# Altium footprint library Relay_Pcb.PcbLib: 4 footprints
Each footprint in its own frame and in the unit in brackets; x right, y up, seen from the top. Pads: shape width x height; smd on the part's side, far side on the other; paste and mask are expansions set on the pad; w line width, h text height; cw(c..) or ccw(c..) is an arc to the next point about the centre after c.
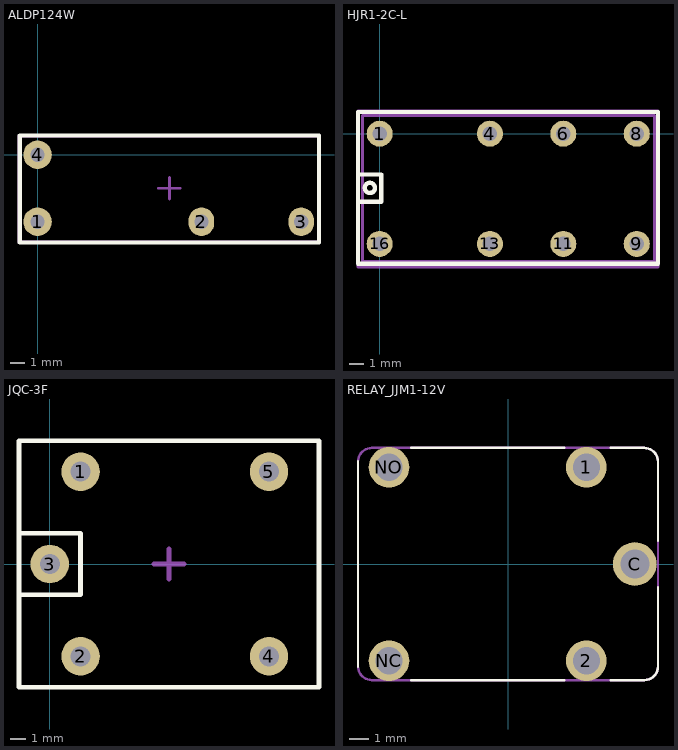
[diagram p0: the footprints below, top view; thin cyan lines are the x and y axes]

## ALDP124W [mm]
pads (4):
  round 2 hole 1: 1(0,-4.7) 4(0,0)
  oval 1.8x2 hole 1: 2(11.5,-4.7) 3(18.5,-4.7)
Top Overlay:
  lines w0.2: -1.25,-6.15 -1.25,1.35 ; -1.25,-6.15 19.75,-6.15 ; -1.25,-6.15 -1.25,1.35 ; -1.25,-6.15 19.75,-6.15 ; -1.25,1.35 19.75,1.35 ; -1.25,1.35 19.75,1.35 ; 19.75,-6.15 19.75,1.35 ; 19.75,-6.15 19.75,1.35
  lines w0.3: -1.25,-6.15 19.75,-6.15 ; -1.25,-6.15 -1.25,1.35 ; -1.25,-6.15 -1.25,1.35 ; -1.25,-6.15 19.75,-6.15 ; -1.25,1.35 19.75,1.35 ; -1.25,1.35 19.75,1.35 ; 19.75,-6.15 19.75,1.35 ; 19.75,-6.15 19.75,1.35
Mechanical 15:
  lines w0.2: 8.5,-2.35 10,-2.35 ; 9.25,-3.1 9.25,-1.6 ; -1.3,-6.1 -1.3,1.3 19.7,1.3 19.7,-6.1 -1.3,-6.1
3D body "Panasonic ALDP112.step": height 15.31, standoff -2.99, extent -1.05,-5.85 19.15,1.05

## HJR1-2C-L [mm]
pads (8):
  round 1.8 hole 1 paste+0 mask+0.1: 1(0,0) 4(7.62,0) 6(12.7,0) 8(17.78,0) 9(17.78,-7.62) 11(12.7,-7.62) 13(7.62,-7.62) 16(0,-7.62)
Top Overlay:
  circle w0.3: c-0.675,-3.75 r0.354
  lines w0.3: -1.5,-4.7 0.1,-4.7 0.1,-2.825 -1.5,-2.825 ; -1.5,-9 -1.5,1.5 19.25,1.5 19.25,-9 -1.5,-9
Mechanical 13:
  lines w0.2: -1.2,-8.85 19,-8.85 19,1.25 -1.2,1.25 -1.2,-8.85
  text ".designator" at 1.223,-5.072 h1.5
Mechanical 15:
  lines w0.2: -1.5,-9.225 -1.5,1.575 19.25,1.575 19.25,-9.225 -1.5,-9.225
3D body "Relay 20x10 8p DPDT.step": height 9.32, standoff -1.99, extent -1.1,-8.8 18.9,1.2

## JQC-3F [mm]
pads (5):
  round 2.5 hole 1.3 unplated: 1(2,6) 2(2,-6) 3(0,0) 4(14.25,-6) 5(14.25,6)
Top Overlay:
  lines w0.3: -2,-8 17.5,-8 ; -2,-8 -2,8 ; -2,-8 17.5,-8 ; -2,-8 -2,8 ; -2,8 17.5,8 ; -2,8 17.5,8 ; 17.5,-8 17.5,8 ; 17.5,-8 17.5,8 ; -2,-2 2,-2 2,2 -2,2 -2,-2
Mechanical 15:
  lines w0.2: -2,-8 17.5,-8 17.5,8 -2,8 -2,-8
  lines w0.3: 6.75,0 8.75,0 ; 7.75,-1 7.75,1
3D body "JQC-35FC(T73)-1.step": height 15.12, standoff -1.99, extent -1.8,-7.7 17,7.5

## RELAY_JJM1-12V [mm]
pads (5):
  round 2.1 hole 1.4: 1(4.05,5) 2(4.05,-5) NC(-6.15,-5) NO(-6.15,5)
  round 2.25 hole 1.5: C(6.55,0)
Top Overlay:
  lines w0.127: -7.75,-5.3 -7.75,5.3 ; -5,-6 2.9,-6 ; -5,6 2.9,6 ; 5.3,-6 7.05,-6 ; 5.3,6 7.05,6 ; 7.04,6 cw(c7.04,5.29) 7.75,5.29 ; 7.052,-6 ccw(c7.039,-5.29) 7.75,-5.29 ; 7.75,-5.25 7.75,-1.2 ; 7.75,1.2 7.75,5.25
Mechanical 29:
  lines w0.127: 7.04,-6 -7.04,-6 cw(c-7.04,-5.29) -7.75,-5.29 -7.75,5.29 cw(c-7.04,5.29) -7.04,6 7.04,6 cw(c7.04,5.29) 7.75,5.29 7.75,-5.29 ; 7.052,-6 ccw(c7.039,-5.29) 7.75,-5.29
3D body "JJM1-12V--3DModel-STEP-56544.STEP": height 13.51, standoff -3.89, extent -7.75,-6 7.75,6